# Altium footprint library PcbLib2.PcbLib: 1 footprints
Each footprint in its own frame and in the unit in brackets; x right, y up, seen from the top. Pads: shape width x height; smd on the part's side, far side on the other; paste and mask are expansions set on the pad; w line width, h text height; cw(c..) or ccw(c..) is an arc to the next point about the centre after c.
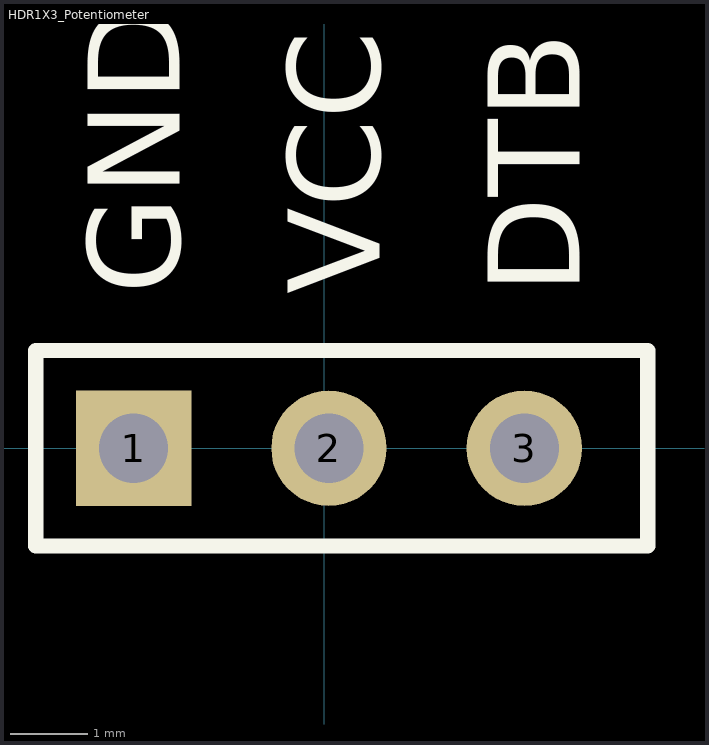
[diagram p0: the footprint, top view; thin cyan lines are the x and y axes]

## HDR1X3_Potentiometer [mm]
pads (3):
  rect 1.5x1.5 hole 0.9: 1(-2.48,0)
  round 1.5 hole 0.9: 2(0.06,0) 3(2.6,0)
Top Overlay:
  lines w0.2: -3.75,-1.27 -3.75,1.27 4.2,1.27 4.2,-1.27 -3.75,-1.27
  text "VCC" at 0.72,2 h1.2
  text "GND" at -1.88,2 h1.2
  text "DTB" at 3.32,2 h1.2